# EAGLE library part CREE_RGB_LED (library flashlight)
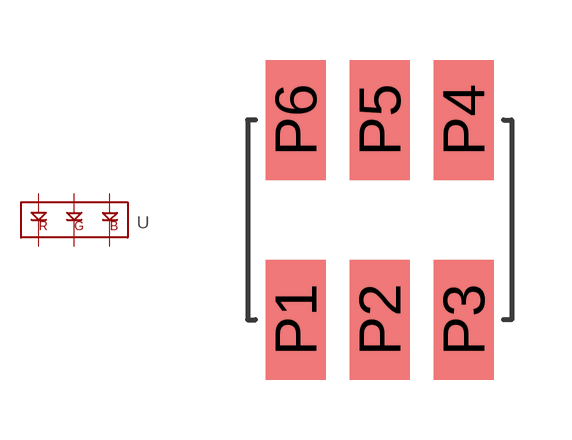
[diagram p2: symbol with the pads of PLCC6; footprint PLCC6]

Designator prefix -

## CREE_RGB_LED  [PLCC6]
P1  R+  pas
P2  G+  pas
P3  B+  pas
P4  B-  pas
P5  G-  pas
P6  R-  pas

## Footprint PLCC6 (pad centres in mm)
smd 1.5 x 3: P1 0,-5; P2 2.1,-5; P3 4.2,-5; P4 4.2,0; P5 2.1,0; P6 0,0